# Altium schematic symbol library Shrouded_Header_2x5_127_SMD.SchLib: 1 symbol
Pins are listed as number, name and electrical type; pins without a type are passive.

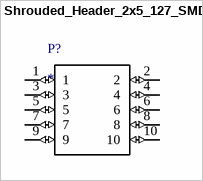
[diagram p0: symbol Shrouded_Header_2x5_127_SMD]

## Shrouded_Header_2x5_127_SMD
designator P?
footprint Shrouded_Header_2x5_127_SMD
pins: 1 (io), 2 (io), 3 (io), 4 (io), 5 (io), 6 (io), 7 (io), 8 (io), 9 (io), 10 (io)